# EAGLE library part BQ24650RVAR (library BQ24650RVAR)
High Efficiency Synchronous Switch-Mode Charger Controller Solar Battery Charger Source: Datasheet <http://www.ti.com/lit/gpn/BQ24650>
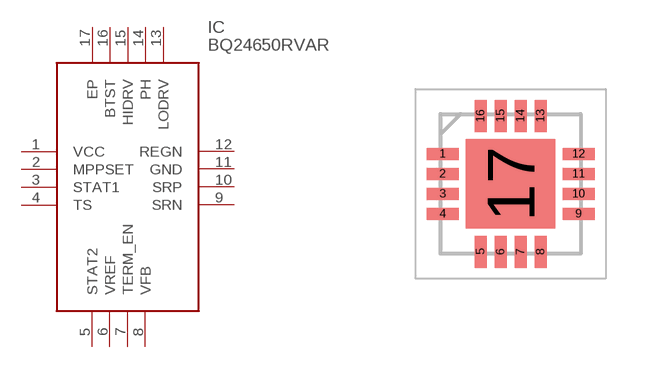
[diagram p0: symbol with the pads of QFN50P350X350X100-17N; footprint QFN50P350X350X100-17N]

Designator prefix IC

## BQ24650RVAR (Description: High Efficiency Synchronous Switch-Mode Charger Controller Solar Battery Charger; Height: 1mm; Manufacturer_Name: Texas Instruments; Manufacturer_Part_Number: BQ24650RVAR; Mouser_Part_Number: 595-BQ24650RVAR; Mouser_Price-Stock: https://www.mouser.co.uk/ProductDetail/Texas-Instruments/BQ24650RVAR?qs=0zjllh%252Bnl7YoFsOK3aOUFA%3D%3D)  [QFN50P350X350X100-17N]
1  VCC
2  MPPSET
3  STAT1
4  TS
5  STAT2
6  VREF
7  TERM_EN
8  VFB
9  SRN
10  SRP
11  GND
12  REGN
13  LODRV
14  PH
15  HIDRV
16  BTST
17  EP

## Footprint QFN50P350X350X100-17N (pad centres in mm)
RVA (S-PVQFN-N16)
smd 0.8 x 0.3: 1 -1.7,0.75; 2 -1.7,0.25; 3 -1.7,-0.25; 4 -1.7,-0.75; 9 1.7,-0.75; 10 1.7,-0.25; 11 1.7,0.25; 12 1.7,0.75
smd 0.3 x 0.8: 5 -0.75,-1.7; 6 -0.25,-1.7; 7 0.25,-1.7; 8 0.75,-1.7; 13 0.75,1.7; 14 0.25,1.7; 15 -0.25,1.7; 16 -0.75,1.7
smd 2.24 x 2.24: 17 0,0